# Altium schematic symbol library BF620.Schlib: 1 symbol
Pins are listed as number, name and electrical type; pins without a type are passive.

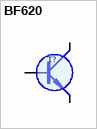
[diagram p0: symbol BF620]

## BF620
designator T?
SOT89   300V 50mA 60MHz 1.6p (30V) (BF621)
pins: 1 B, 2 C (oc), 3 E (oe)
1 alternate drawing of the same symbol